# Altium footprint library HVQFN-32_5x5x05P.PcbLib: 1 footprints
Each footprint in its own frame and in the unit in brackets; x right, y up, seen from the top. Pads: shape width x height; smd on the part's side, far side on the other; paste and mask are expansions set on the pad; w line width, h text height; cw(c..) or ccw(c..) is an arc to the next point about the centre after c.
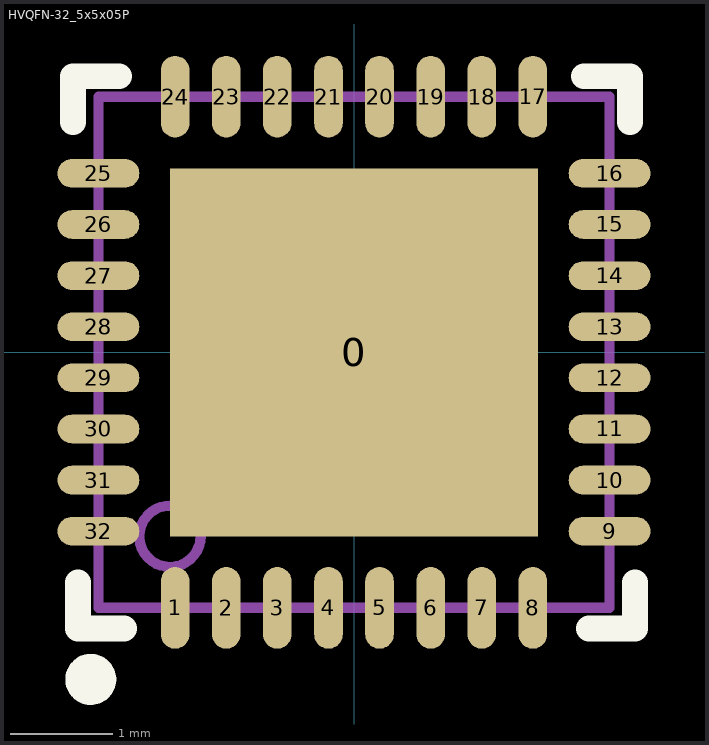
[diagram p0: the footprint, top view; thin cyan lines are the x and y axes]

## HVQFN-32_5x5x05P [mm]
pads (33):
  rect 3.6x3.6 smd mask+0.051: 0(0,0)
  oval 0.28x0.8 smd mask+0.051: 1(-1.75,-2.5) 2(-1.25,-2.5) 3(-0.75,-2.5) 4(-0.25,-2.5) 5(0.25,-2.5) 6(0.75,-2.5) 7(1.25,-2.5) 8(1.75,-2.5) 17(1.75,2.5) 18(1.25,2.5) 19(0.75,2.5) 20(0.25,2.5) 21(-0.25,2.5) 22(-0.75,2.5) 23(-1.25,2.5) 24(-1.75,2.5)
  oval 0.8x0.28 smd mask+0.051: 9(2.5,-1.75) 10(2.5,-1.25) 11(2.5,-0.75) 12(2.5,-0.25) 13(2.5,0.25) 14(2.5,0.75) 15(2.5,1.25) 16(2.5,1.75) 25(-2.5,1.75) 26(-2.5,1.25) 27(-2.5,0.75) 28(-2.5,0.25) 29(-2.5,-0.25) 30(-2.5,-0.75) 31(-2.5,-1.25) 32(-2.5,-1.75)
Top Overlay:
  circle w0.25: c-2.575,-3.2 r0.125
  lines w0.254: -2.75,2.25 -2.75,2.7 -2.3,2.7 ; -2.7,-2.25 -2.7,-2.7 -2.25,-2.7 ; 2.25,2.7 2.7,2.7 2.7,2.25 ; 2.3,-2.7 2.75,-2.7 2.75,-2.25
Mechanical 13:
  circle w0.1: c-1.8,-1.8 r0.3
  lines w0.1: -2.5,-2.5 2.5,-2.5 2.5,2.5 -2.5,2.5 -2.5,-2.5